# Altium integrated library Analog Devices Operational Amplifiers.IntLib: 2102 symbols (part 54 of 70)
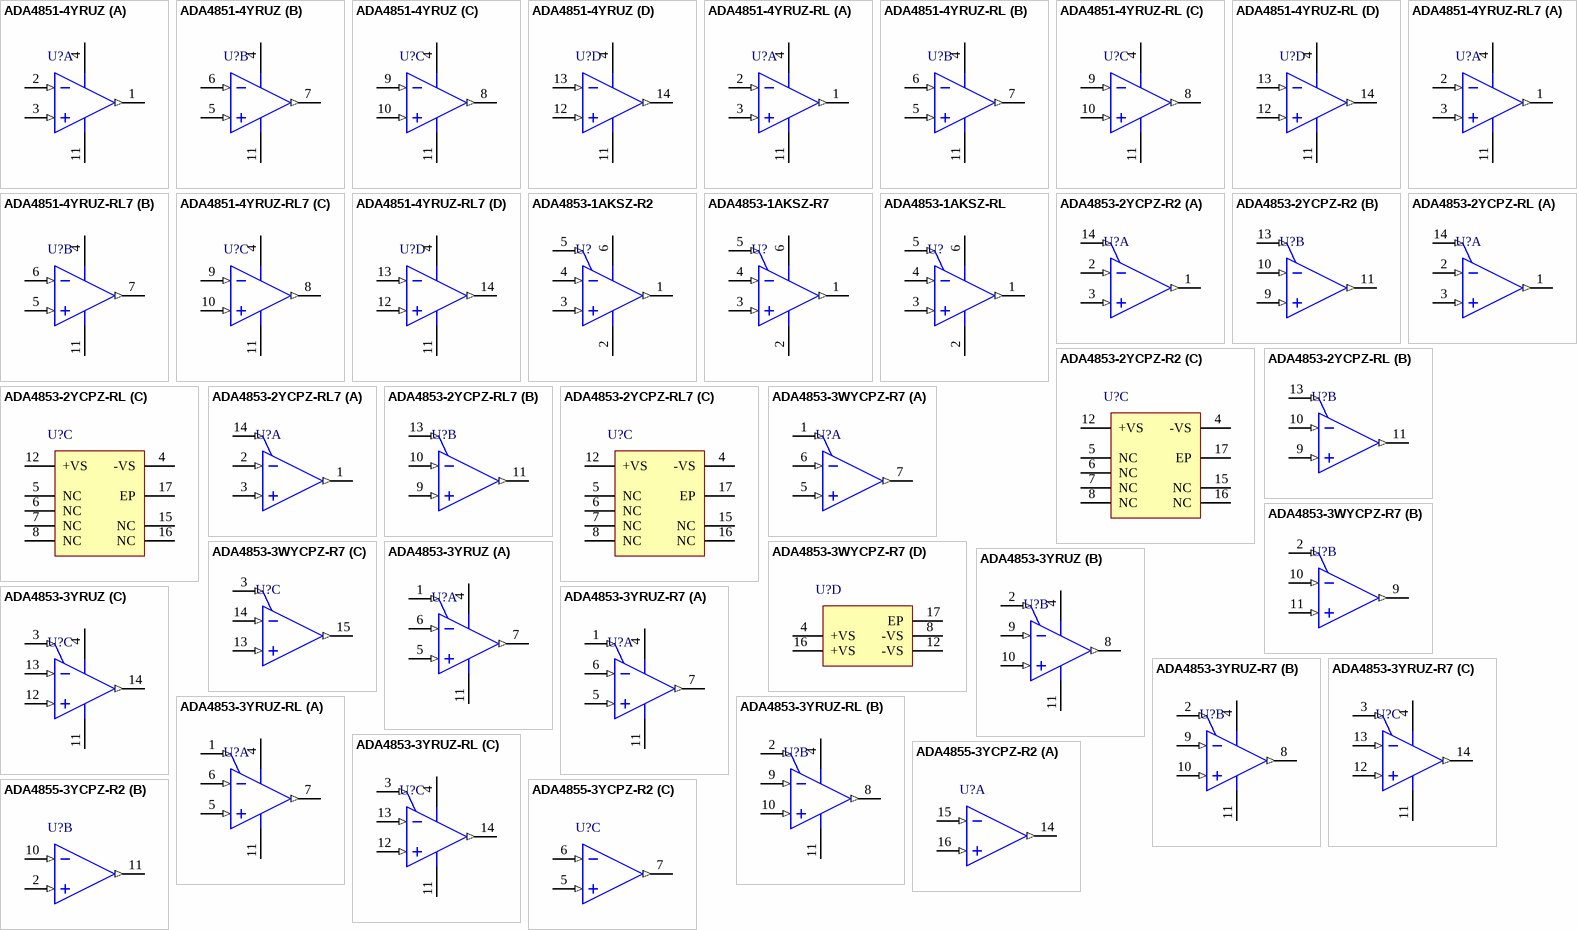
[diagram p167: symbols ADA4851-4YRUZ to ADA4855-3YCPZ-R2]

## ADA4853-2YCPZ-RL
designator U?
Double Channel Ultra Low Power-Down Current Operational Amplifier, 100 MHz BW, 120 V/us SR, Industrial, 16-pin QFN (CP-16-3), Reel; Generic Part Number: ADA4853-2; Manufacturer: Analog Devices; PartNumber: ADA4853-2YCPZ-RL; Amplifiers Per Package: 2; Input Bias Current: 1uA; Input Offset Voltage: 2mV; Iq/Amp: 1.6mA; Small Signal Bandwidth: 100MHz; V Span Max: 5V; V Span Min: 2.65V; DatasheetVersion: Rev. F; PackageReference: CP-16-3; PackageDescription: 16-Pin Lead Frame Chip Scale Package, Body 3 x 3 mm, Pitch 0.5 mm; Supplier 1: Digi-Key; Supplier Part Number 1: ADA4853-2YCPZ-RL-ND; Slew Rate: 120V/us; Mounting Technology: Surface Mount; Code_JEDEC: MO-220-VEED-2; ComponentLink1Description: Manufacturer URL; ComponentLink1URL: http://www.analog.com/en/index.html; ComponentLink2Description: Datasheet; ComponentLink2URL: http://www.analog.com/static/imported-files/data_sheets/ADA4853-1_4853-2_4853-3.pdf; ComponentLink3Description: Package Specification; ComponentLink3URL: http://www.analog.com/static/imported-files/packages/PKG_PDF/LFCSP(CP)/CP_16_3.pdf; ComponentLink4Description: Reference Circuit; ComponentLink4URL: http://www.analog.com/en/all-operational-amplifiers-op-amps/operational-amplifiers-op-amps/ada4853-2/products/product.html#product-recommendations
footprint ADI-CP-16-3_N (QFN, 16-Leads, Body 3x3mm, Pitch 0.5mm, Thermal Pad 1.5x1.5mm, IPC Medium Density)
footprint ADI-CP-16-3_L (QFN, 16-Leads, Body 3x3mm, Pitch 0.5mm, Thermal Pad 1.5x1.5mm, IPC High Density)
footprint ADI-CP-16-3_M (QFN, 16-Leads, Body 3x3mm, Pitch 0.5mm, Thermal Pad 1.5x1.5mm, IPC Low Density)
part A pins: 1 VOUT 1 (out), 2 -IN 1 (in), 3 +IN 1 (in), 14 DISABLE 1 (in)
part B pins: 9 +IN 2 (in), 10 -IN 2 (in), 11 VOUT 2 (out), 13 DISABLE 2 (in)
part C pins: 4 -VS (power), 5 NC, 6 NC, 7 NC, 8 NC, 12 +VS (power), 15 NC, 16 NC, 17 EP (power) "EXPOSED DIE PAD MUST BE CONNECTED TO GND."

## ADA4853-2YCPZ-RL7
designator U?
Double Channel Ultra Low Power-Down Current Operational Amplifier, 100 MHz BW, 120 V/us SR, Industrial, 16-pin QFN (CP-16-3), Reel; Generic Part Number: ADA4853-2; Manufacturer: Analog Devices; PartNumber: ADA4853-2YCPZ-RL7; Amplifiers Per Package: 2; Input Bias Current: 1uA; Input Offset Voltage: 2mV; Iq/Amp: 1.6mA; Small Signal Bandwidth: 100MHz; V Span Max: 5V; V Span Min: 2.65V; DatasheetVersion: Rev. F; PackageReference: CP-16-3; PackageDescription: 16-Pin Lead Frame Chip Scale Package, Body 3 x 3 mm, Pitch 0.5 mm; Supplier 1: Digi-Key; Supplier Part Number 1: ADA4853-2YCPZ-RL7TR-ND; Supplier 2: Digi-Key; Supplier Part Number 2: ADA4853-2YCPZ-RL7CT-ND; Supplier 3: Digi-Key; Supplier Part Number 3: ADA4853-2YCPZ-RL7DKR-ND; Slew Rate: 120V/us; Mounting Technology: Surface Mount; Code_JEDEC: MO-220-VEED-2; ComponentLink1Description: Manufacturer URL; ComponentLink1URL: http://www.analog.com/en/index.html; ComponentLink2Description: Datasheet; ComponentLink2URL: http://www.analog.com/static/imported-files/data_sheets/ADA4853-1_4853-2_4853-3.pdf; ComponentLink3Description: Package Specification; ComponentLink3URL: http://www.analog.com/static/imported-files/packages/PKG_PDF/LFCSP(CP)/CP_16_3.pdf; ComponentLink4Description: Reference Circuit; ComponentLink4URL: http://www.analog.com/en/all-operational-amplifiers-op-amps/operational-amplifiers-op-amps/ada4853-2/products/product.html#product-recommendations
footprint ADI-CP-16-3_N (QFN, 16-Leads, Body 3x3mm, Pitch 0.5mm, Thermal Pad 1.5x1.5mm, IPC Medium Density)
footprint ADI-CP-16-3_L (QFN, 16-Leads, Body 3x3mm, Pitch 0.5mm, Thermal Pad 1.5x1.5mm, IPC High Density)
footprint ADI-CP-16-3_M (QFN, 16-Leads, Body 3x3mm, Pitch 0.5mm, Thermal Pad 1.5x1.5mm, IPC Low Density)
part A pins: 1 VOUT 1 (out), 2 -IN 1 (in), 3 +IN 1 (in), 14 DISABLE 1 (in)
part B pins: 9 +IN 2 (in), 10 -IN 2 (in), 11 VOUT 2 (out), 13 DISABLE 2 (in)
part C pins: 4 -VS (power), 5 NC, 6 NC, 7 NC, 8 NC, 12 +VS (power), 15 NC, 16 NC, 17 EP (power) "EXPOSED DIE PAD MUST BE CONNECTED TO GND."

## ADA4853-3WYCPZ-R7
designator U?
3 Channel Ultra Low Power-Down Current Operational Amplifier, 100 MHz BW, 120 V/us SR, Industrial, 16-pin QFN (CP-16-3), Reel; Generic Part Number: ADA4853-3; Manufacturer: Analog Devices; PartNumber: ADA4853-3WYCPZ-R7; Amplifiers Per Package: 3; Automotive Qualified: Yes; Input Bias Current: 1uA; Input Offset Voltage: 1mV; Iq/Amp: 1.4mA; Small Signal Bandwidth: 100MHz; V Span Max: 5V; V Span Min: 2.65V; DatasheetVersion: Rev. F; PackageReference: CP-16-3; PackageDescription: 16-Pin Lead Frame Chip Scale Package, Body 3 x 3 mm, Pitch 0.5 mm; Slew Rate: 120V/us; Mounting Technology: Surface Mount; Code_JEDEC: MO-220-VEED-2; ComponentLink1Description: Manufacturer URL; ComponentLink1URL: http://www.analog.com/en/index.html; ComponentLink2Description: Datasheet; ComponentLink2URL: http://www.analog.com/static/imported-files/data_sheets/ADA4853-1_4853-2_4853-3.pdf; ComponentLink3Description: Package Specification; ComponentLink3URL: http://www.analog.com/static/imported-files/packages/PKG_PDF/LFCSP(CP)/CP_16_3.pdf; ComponentLink4Description: Reference Circuit; ComponentLink4URL: http://www.analog.com/en/all-operational-amplifiers-op-amps/operational-amplifiers-op-amps/ada4853-3/products/product.html#product-recommendations
footprint ADI-CP-16-3_N (QFN, 16-Leads, Body 3x3mm, Pitch 0.5mm, Thermal Pad 1.5x1.5mm, IPC Medium Density)
footprint ADI-CP-16-3_L (QFN, 16-Leads, Body 3x3mm, Pitch 0.5mm, Thermal Pad 1.5x1.5mm, IPC High Density)
footprint ADI-CP-16-3_M (QFN, 16-Leads, Body 3x3mm, Pitch 0.5mm, Thermal Pad 1.5x1.5mm, IPC Low Density)
part A pins: 1 DISABLE 1 (in), 5 +IN 1 (in), 6 -IN 1 (in), 7 VOUT 1 (out)
part B pins: 2 DISABLE 2 (in), 9 VOUT 2 (out), 10 -IN 2 (in), 11 +IN 2 (in)
part C pins: 3 DISABLE 3 (in), 13 +IN 3 (in), 14 -IN 3 (in), 15 VOUT 3 (out)
part D pins: 4 +VS (power), 8 -VS (power), 12 -VS (power), 16 +VS (power), 17 EP (power)

## ADA4853-3YRUZ
designator U?
3 Channel Ultra Low Power-Down Current Operational Amplifier, 100 MHz BW, 120 V/us SR, Industrial, 14-pin SOP (RU-14), Tube; Generic Part Number: ADA4853-3; Manufacturer: Analog Devices; PartNumber: ADA4853-3YRUZ; Amplifiers Per Package: 3; Automotive Qualified: Yes; Input Bias Current: 1uA; Input Offset Voltage: 1mV; Iq/Amp: 1.4mA; Small Signal Bandwidth: 100MHz; V Span Max: 5V; V Span Min: 2.65V; DatasheetVersion: Rev. F; PackageReference: RU-14; PackageDescription: 14-Pin Thin Shrink Small Outline Package, Body 5 x 4.4 mm, Pitch 0.65 mm; Supplier 1: Digi-Key; Supplier Part Number 1: ADA4853-3YRUZ-ND; Supplier 2: Farnell; Supplier Part Number 2: 1498692; Supplier 3: Newark; Supplier Part Number 3: 15P0326; Slew Rate: 120V/us; Mounting Technology: Surface Mount; Code_JEDEC: MO-153AB-1; ComponentLink1Description: Manufacturer URL; ComponentLink1URL: http://www.analog.com/en/index.html; ComponentLink2Description: Datasheet; ComponentLink2URL: http://www.analog.com/static/imported-files/data_sheets/ADA4853-1_4853-2_4853-3.pdf; ComponentLink3Description: Package Specification; ComponentLink3URL: http://www.analog.com/static/imported-files/packages/36057385283879153717235186773RU14.pdf; ComponentLink4Description: Reference Circuit; ComponentLink4URL: http://www.analog.com/en/all-operational-amplifiers-op-amps/operational-amplifiers-op-amps/ada4853-3/products/product.html#product-recommendations
footprint ADI-RU-14_N (SOP, 14-Leads, Body 5x4.4mm, Pitch 0.65mm, IPC Medium Density)
footprint ADI-RU-14_L (SOP, 14-Leads, Body 5x4.4mm, Pitch 0.65mm, IPC High Density)
footprint ADI-RU-14_M (SOP, 14-Leads, Body 5x4.4mm, Pitch 0.65mm, IPC Low Density)
pins on every part: 4 +VS (power), 11 -VS (power)
part A pins: 1 DISABLE 1 (in), 5 +IN 1 (in), 6 -IN 1 (in), 7 VOUT 1 (out)
part B pins: 2 DISABLE 2 (in), 8 VOUT 2 (out), 9 -IN 2 (in), 10 +IN 2 (in)
part C pins: 3 DISABLE 3 (in), 12 +IN 3 (in), 13 -IN 3 (in), 14 VOUT 3 (out)

## ADA4853-3YRUZ-R7
designator U?
3 Channel Ultra Low Power-Down Current Operational Amplifier, 100 MHz BW, 120 V/us SR, Industrial, 14-pin SOP (RU-14), Reel; Generic Part Number: ADA4853-3; Manufacturer: Analog Devices; PartNumber: ADA4853-3YRUZ-R7; Amplifiers Per Package: 3; Automotive Qualified: Yes; Input Bias Current: 1uA; Input Offset Voltage: 1mV; Iq/Amp: 1.4mA; Small Signal Bandwidth: 100MHz; V Span Max: 5V; V Span Min: 2.65V; DatasheetVersion: Rev. F; PackageReference: RU-14; PackageDescription: 14-Pin Thin Shrink Small Outline Package, Body 5 x 4.4 mm, Pitch 0.65 mm; Supplier 1: Digi-Key; Supplier Part Number 1: ADA4853-3YRUZ-R7-ND; Slew Rate: 120V/us; Mounting Technology: Surface Mount; Code_JEDEC: MO-153AB-1; ComponentLink1Description: Manufacturer URL; ComponentLink1URL: http://www.analog.com/en/index.html; ComponentLink2Description: Datasheet; ComponentLink2URL: http://www.analog.com/static/imported-files/data_sheets/ADA4853-1_4853-2_4853-3.pdf; ComponentLink3Description: Package Specification; ComponentLink3URL: http://www.analog.com/static/imported-files/packages/36057385283879153717235186773RU14.pdf; ComponentLink4Description: Reference Circuit; ComponentLink4URL: http://www.analog.com/en/all-operational-amplifiers-op-amps/operational-amplifiers-op-amps/ada4853-3/products/product.html#product-recommendations
footprint ADI-RU-14_N (SOP, 14-Leads, Body 5x4.4mm, Pitch 0.65mm, IPC Medium Density)
footprint ADI-RU-14_L (SOP, 14-Leads, Body 5x4.4mm, Pitch 0.65mm, IPC High Density)
footprint ADI-RU-14_M (SOP, 14-Leads, Body 5x4.4mm, Pitch 0.65mm, IPC Low Density)
pins on every part: 4 +VS (power), 11 -VS (power)
part A pins: 1 DISABLE 1 (in), 5 +IN 1 (in), 6 -IN 1 (in), 7 VOUT 1 (out)
part B pins: 2 DISABLE 2 (in), 8 VOUT 2 (out), 9 -IN 2 (in), 10 +IN 2 (in)
part C pins: 3 DISABLE 3 (in), 12 +IN 3 (in), 13 -IN 3 (in), 14 VOUT 3 (out)

## ADA4853-3YRUZ-RL
designator U?
3 Channel Ultra Low Power-Down Current Operational Amplifier, 100 MHz BW, 120 V/us SR, Industrial, 14-pin SOP (RU-14), Reel; Generic Part Number: ADA4853-3; Manufacturer: Analog Devices; PartNumber: ADA4853-3YRUZ-RL; Amplifiers Per Package: 3; Automotive Qualified: Yes; Input Bias Current: 1uA; Input Offset Voltage: 1mV; Iq/Amp: 1.4mA; Small Signal Bandwidth: 100MHz; V Span Max: 5V; V Span Min: 2.65V; DatasheetVersion: Rev. F; PackageReference: RU-14; PackageDescription: 14-Pin Thin Shrink Small Outline Package, Body 5 x 4.4 mm, Pitch 0.65 mm; Supplier 1: Digi-Key; Supplier Part Number 1: ADA4853-3YRUZ-RL-ND; Slew Rate: 120V/us; Mounting Technology: Surface Mount; Code_JEDEC: MO-153AB-1; ComponentLink1Description: Manufacturer URL; ComponentLink1URL: http://www.analog.com/en/index.html; ComponentLink2Description: Datasheet; ComponentLink2URL: http://www.analog.com/static/imported-files/data_sheets/ADA4853-1_4853-2_4853-3.pdf; ComponentLink3Description: Package Specification; ComponentLink3URL: http://www.analog.com/static/imported-files/packages/36057385283879153717235186773RU14.pdf; ComponentLink4Description: Reference Circuit; ComponentLink4URL: http://www.analog.com/en/all-operational-amplifiers-op-amps/operational-amplifiers-op-amps/ada4853-3/products/product.html#product-recommendations
footprint ADI-RU-14_N (SOP, 14-Leads, Body 5x4.4mm, Pitch 0.65mm, IPC Medium Density)
footprint ADI-RU-14_L (SOP, 14-Leads, Body 5x4.4mm, Pitch 0.65mm, IPC High Density)
footprint ADI-RU-14_M (SOP, 14-Leads, Body 5x4.4mm, Pitch 0.65mm, IPC Low Density)
pins on every part: 4 +VS (power), 11 -VS (power)
part A pins: 1 DISABLE 1 (in), 5 +IN 1 (in), 6 -IN 1 (in), 7 VOUT 1 (out)
part B pins: 2 DISABLE 2 (in), 8 VOUT 2 (out), 9 -IN 2 (in), 10 +IN 2 (in)
part C pins: 3 DISABLE 3 (in), 12 +IN 3 (in), 13 -IN 3 (in), 14 VOUT 3 (out)

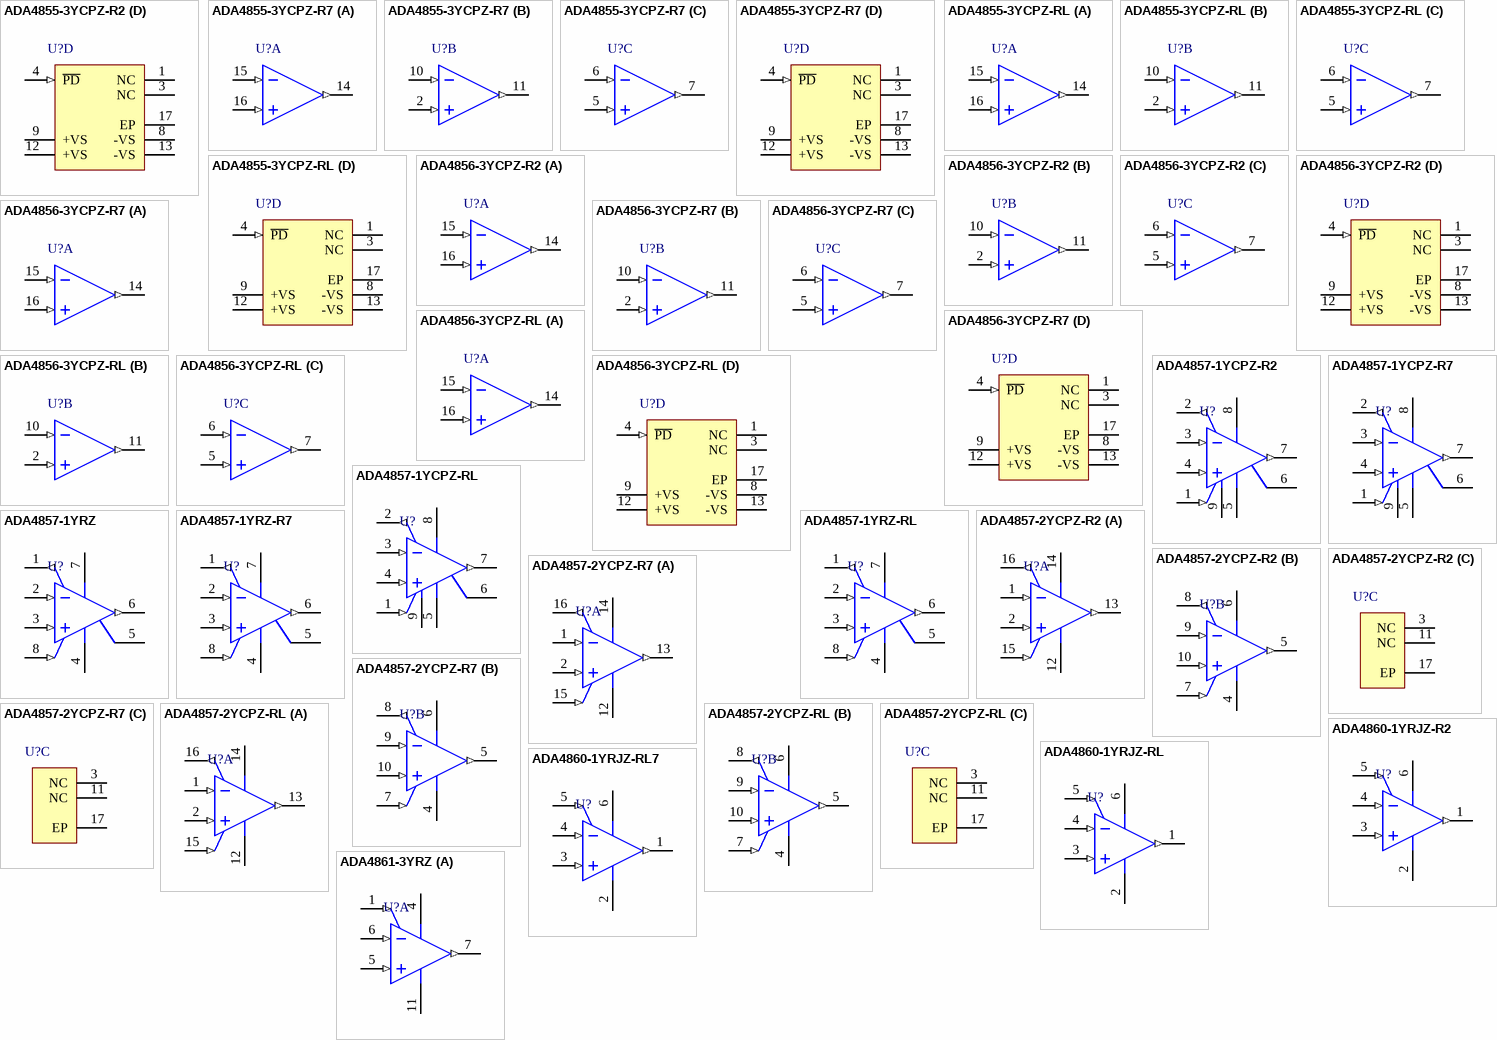
[diagram p85: symbols ADA4855-3YCPZ-R2 to ADA4861-3YRZ]

## ADA4855-3YCPZ-R2
designator U?
3 Channel Rail-to-Rail Operational Amplifier, 400 MHz BW, 800 V/us SR, Industrial, 16-pin QFN (CP-16-4), Reel; Generic Part Number: ADA4855-3; Manufacturer: Analog Devices; PartNumber: ADA4855-3YCPZ-R2; Amplifiers Per Package: 3; Input Bias Current: 4.5uA; Input Offset Voltage: 1mV; Small Signal Bandwidth: 400MHz; V Span Max: 5.5V; V Span Min: 3V; DatasheetVersion: Rev. 0; PackageVersion: 010606-0; PackageReference: CP-16-4; PackageDescription: 16-Pin Lead Frame Chip Scale Package, Body 4 x 4 mm, Pitch 0.65 mm; Supplier 1: Farnell; Supplier Part Number 1: 1701272; Supplier 2: Newark; Supplier Part Number 2: 34P2974; Slew Rate: 800V/us; Mounting Technology: Surface Mount; Code_JEDEC: MO-220-VGGC; ComponentLink1Description: Manufacturer URL; ComponentLink1URL: http://www.analog.com/en/index.html; ComponentLink2Description: Datasheet; ComponentLink2URL: http://www.analog.com/static/imported-files/data_sheets/ADA4855-3.pdf; ComponentLink3Description: Package Specification; ComponentLink3URL: http://www.analog.com/static/imported-files/packages/46009454504174339653421710019CP_16_4.pdf
footprint CP-16-4_N (QFN, 16-Leads, Body 4x4mm, Pitch 0.65mm, Thermal Pad 2.1x2.1mm, IPC Medium Density)
footprint CP-16-4_L (QFN, 16-Leads, Body 4x4mm, Pitch 0.65mm, Thermal Pad 2.1x2.1mm, IPC High Density)
footprint CP-16-4_M (QFN, 16-Leads, Body 4x4mm, Pitch 0.65mm, Thermal Pad 2.1x2.1mm, IPC Low Density)
part A pins: 14 OUT 1 (out) "Output 1.", 15 -IN 1 (in) "Inverting Input 1.", 16 +IN 1 (in) "Noninverting Input 1."
part B pins: 2 +IN 2 (in) "Noninverting Input 2.", 10 -IN 2 (in) "Inverting Input 2.", 11 OUT 2 (out) "Output 2."
part C pins: 5 +IN 3 (in) "Noninverting Input 3.", 6 -IN 3 (in) "Inverting Input 3.", 7 OUT 3 (out) "Output 3."
part D pins: 1 NC "No Connect.", 3 NC "No Connect.", 4 ~{PD} (in) "Power Down.", 8 -VS (power) "Negative Supply.", 9 +VS (power) "Positive Supply.", 12 +VS (power) "Positive Supply.", 13 -VS (power) "Negative Supply.", 17 EP (power) "The exposed pad must be connected to -VS."

## ADA4855-3YCPZ-R7
designator U?
3 Channel Rail-to-Rail Operational Amplifier, 400 MHz BW, 800 V/us SR, Industrial, 16-pin QFN (CP-16-4), Reel; Generic Part Number: ADA4855-3; Manufacturer: Analog Devices; PartNumber: ADA4855-3YCPZ-R7; Amplifiers Per Package: 3; Input Bias Current: 4.5uA; Input Offset Voltage: 1mV; Small Signal Bandwidth: 400MHz; V Span Max: 5.5V; V Span Min: 3V; DatasheetVersion: Rev. 0; PackageVersion: 010606-0; PackageReference: CP-16-4; PackageDescription: 16-Pin Lead Frame Chip Scale Package, Body 4 x 4 mm, Pitch 0.65 mm; Supplier 1: Digi-Key; Supplier Part Number 1: ADA4855-3YCPZ-R7TR-ND; Supplier 2: Digi-Key; Supplier Part Number 2: ADA4855-3YCPZ-R7CT-ND; Supplier 3: Digi-Key; Supplier Part Number 3: ADA4855-3YCPZ-R7DKR-ND; Slew Rate: 800V/us; Mounting Technology: Surface Mount; Code_JEDEC: MO-220-VGGC; ComponentLink1Description: Manufacturer URL; ComponentLink1URL: http://www.analog.com/en/index.html; ComponentLink2Description: Datasheet; ComponentLink2URL: http://www.analog.com/static/imported-files/data_sheets/ADA4855-3.pdf; ComponentLink3Description: Package Specification; ComponentLink3URL: http://www.analog.com/static/imported-files/packages/46009454504174339653421710019CP_16_4.pdf
footprint CP-16-4_N (QFN, 16-Leads, Body 4x4mm, Pitch 0.65mm, Thermal Pad 2.1x2.1mm, IPC Medium Density)
footprint CP-16-4_L (QFN, 16-Leads, Body 4x4mm, Pitch 0.65mm, Thermal Pad 2.1x2.1mm, IPC High Density)
footprint CP-16-4_M (QFN, 16-Leads, Body 4x4mm, Pitch 0.65mm, Thermal Pad 2.1x2.1mm, IPC Low Density)
part A pins: 14 OUT 1 (out) "Output 1.", 15 -IN 1 (in) "Inverting Input 1.", 16 +IN 1 (in) "Noninverting Input 1."
part B pins: 2 +IN 2 (in) "Noninverting Input 2.", 10 -IN 2 (in) "Inverting Input 2.", 11 OUT 2 (out) "Output 2."
part C pins: 5 +IN 3 (in) "Noninverting Input 3.", 6 -IN 3 (in) "Inverting Input 3.", 7 OUT 3 (out) "Output 3."
part D pins: 1 NC "No Connect.", 3 NC "No Connect.", 4 ~{PD} (in) "Power Down.", 8 -VS (power) "Negative Supply.", 9 +VS (power) "Positive Supply.", 12 +VS (power) "Positive Supply.", 13 -VS (power) "Negative Supply.", 17 EP (power) "The exposed pad must be connected to -VS."

## ADA4855-3YCPZ-RL
designator U?
3 Channel Rail-to-Rail Operational Amplifier, 400 MHz BW, 800 V/us SR, Industrial, 16-pin QFN (CP-16-4), Reel; Generic Part Number: ADA4855-3; Manufacturer: Analog Devices; PartNumber: ADA4855-3YCPZ-RL; Amplifiers Per Package: 3; Input Bias Current: 4.5uA; Input Offset Voltage: 1mV; Small Signal Bandwidth: 400MHz; V Span Max: 5.5V; V Span Min: 3V; DatasheetVersion: Rev. 0; PackageVersion: 010606-0; PackageReference: CP-16-4; PackageDescription: 16-Pin Lead Frame Chip Scale Package, Body 4 x 4 mm, Pitch 0.65 mm; Supplier 1: Digi-Key; Supplier Part Number 1: ADA4855-3YCPZ-RL-ND; Slew Rate: 800V/us; Mounting Technology: Surface Mount; Code_JEDEC: MO-220-VGGC; ComponentLink1Description: Manufacturer URL; ComponentLink1URL: http://www.analog.com/en/index.html; ComponentLink2Description: Datasheet; ComponentLink2URL: http://www.analog.com/static/imported-files/data_sheets/ADA4855-3.pdf; ComponentLink3Description: Package Specification; ComponentLink3URL: http://www.analog.com/static/imported-files/packages/46009454504174339653421710019CP_16_4.pdf
footprint CP-16-4_N (QFN, 16-Leads, Body 4x4mm, Pitch 0.65mm, Thermal Pad 2.1x2.1mm, IPC Medium Density)
footprint CP-16-4_L (QFN, 16-Leads, Body 4x4mm, Pitch 0.65mm, Thermal Pad 2.1x2.1mm, IPC High Density)
footprint CP-16-4_M (QFN, 16-Leads, Body 4x4mm, Pitch 0.65mm, Thermal Pad 2.1x2.1mm, IPC Low Density)
part A pins: 14 OUT 1 (out) "Output 1.", 15 -IN 1 (in) "Inverting Input 1.", 16 +IN 1 (in) "Noninverting Input 1."
part B pins: 2 +IN 2 (in) "Noninverting Input 2.", 10 -IN 2 (in) "Inverting Input 2.", 11 OUT 2 (out) "Output 2."
part C pins: 5 +IN 3 (in) "Noninverting Input 3.", 6 -IN 3 (in) "Inverting Input 3.", 7 OUT 3 (out) "Output 3."
part D pins: 1 NC "No Connect.", 3 NC "No Connect.", 4 ~{PD} (in) "Power Down.", 8 -VS (power) "Negative Supply.", 9 +VS (power) "Positive Supply.", 12 +VS (power) "Positive Supply.", 13 -VS (power) "Negative Supply.", 17 EP (power) "The exposed pad must be connected to -VS."

## ADA4856-3YCPZ-R2
designator U?
3 Channel Rail-to-Rail Operational Amplifier, 225 MHz BW, 800 V/us SR, Industrial, 16-pin QFN (CP-16-4), Reel; Generic Part Number: ADA4856-3; Manufacturer: Analog Devices; PartNumber: ADA4856-3YCPZ-R2; Amplifiers Per Package: 3; Input Bias Current: 3.8uA; Input Offset Voltage: 1.3mV; Iq/Amp: 7.8mA; Small Signal Bandwidth: 225MHz; V Span Max: 5.5V; V Span Min: 3V; DatasheetVersion: Rev. A; PackageVersion: 010606-0; PackageReference: CP-16-4; PackageDescription: 16-Pin Lead Frame Chip Scale Package, Body 4 x 4 mm, Pitch 0.65 mm; Supplier 1: Digi-Key; Supplier Part Number 1: ADA4856-3YCPZ-R2CT-ND; Supplier 2: Digi-Key; Supplier Part Number 2: ADA4856-3YCPZ-R2DKR-ND; Supplier 3: Newark; Supplier Part Number 3: 34P2977; Slew Rate: 800V/us; Mounting Technology: Surface Mount; Code_JEDEC: MO-220-VGGC; ComponentLink1Description: Manufacturer URL; ComponentLink1URL: http://www.analog.com/en/index.html; ComponentLink2Description: Datasheet; ComponentLink2URL: http://www.analog.com/static/imported-files/data_sheets/ADA4856-3.pdf; ComponentLink3Description: Package Specification; ComponentLink3URL: http://www.analog.com/static/imported-files/packages/46009454504174339653421710019CP_16_4.pdf
footprint CP-16-4_N (QFN, 16-Leads, Body 4x4mm, Pitch 0.65mm, Thermal Pad 2.1x2.1mm, IPC Medium Density)
footprint CP-16-4_L (QFN, 16-Leads, Body 4x4mm, Pitch 0.65mm, Thermal Pad 2.1x2.1mm, IPC High Density)
footprint CP-16-4_M (QFN, 16-Leads, Body 4x4mm, Pitch 0.65mm, Thermal Pad 2.1x2.1mm, IPC Low Density)
part A pins: 14 OUT 1 (out) "Output 1.", 15 -IN 1 (in) "Inverting Input 1.", 16 +IN 1 (in) "Noninverting Input 1."
part B pins: 2 +IN 2 (in) "Noninverting Input 2.", 10 -IN 2 (in) "Inverting Input 2.", 11 OUT 2 (out) "Output 2."
part C pins: 5 +IN 3 (in) "Noninverting Input 3.", 6 -IN 3 (in) "Inverting Input 3.", 7 OUT 3 (out) "Output 3."
part D pins: 1 NC "No Connect.", 3 NC "No Connect.", 4 ~{PD} (in) "Power Down.", 8 -VS (power) "Negative Supply.", 9 +VS (power) "Positive Supply.", 12 +VS (power) "Positive Supply.", 13 -VS (power) "Negative Supply.", 17 EP (power) "The exposed pad must be connected to -VS."

## ADA4856-3YCPZ-R7
designator U?
3 Channel Rail-to-Rail Operational Amplifier, 225 MHz BW, 800 V/us SR, Industrial, 16-pin QFN (CP-16-4), Reel; Generic Part Number: ADA4856-3; Manufacturer: Analog Devices; PartNumber: ADA4856-3YCPZ-R7; Amplifiers Per Package: 3; Input Bias Current: 3.8uA; Input Offset Voltage: 1.3mV; Iq/Amp: 7.8mA; Small Signal Bandwidth: 225MHz; V Span Max: 5.5V; V Span Min: 3V; DatasheetVersion: Rev. A; PackageVersion: 010606-0; PackageReference: CP-16-4; PackageDescription: 16-Pin Lead Frame Chip Scale Package, Body 4 x 4 mm, Pitch 0.65 mm; Supplier 1: Digi-Key; Supplier Part Number 1: ADA4856-3YCPZ-R7TR-ND; Supplier 2: Digi-Key; Supplier Part Number 2: ADA4856-3YCPZ-R7CT-ND; Supplier 3: Digi-Key; Supplier Part Number 3: ADA4856-3YCPZ-R7DKR-ND; Slew Rate: 800V/us; Mounting Technology: Surface Mount; Code_JEDEC: MO-220-VGGC; ComponentLink1Description: Manufacturer URL; ComponentLink1URL: http://www.analog.com/en/index.html; ComponentLink2Description: Datasheet; ComponentLink2URL: http://www.analog.com/static/imported-files/data_sheets/ADA4856-3.pdf; ComponentLink3Description: Package Specification; ComponentLink3URL: http://www.analog.com/static/imported-files/packages/46009454504174339653421710019CP_16_4.pdf
footprint CP-16-4_N (QFN, 16-Leads, Body 4x4mm, Pitch 0.65mm, Thermal Pad 2.1x2.1mm, IPC Medium Density)
footprint CP-16-4_L (QFN, 16-Leads, Body 4x4mm, Pitch 0.65mm, Thermal Pad 2.1x2.1mm, IPC High Density)
footprint CP-16-4_M (QFN, 16-Leads, Body 4x4mm, Pitch 0.65mm, Thermal Pad 2.1x2.1mm, IPC Low Density)
part A pins: 14 OUT 1 (out) "Output 1.", 15 -IN 1 (in) "Inverting Input 1.", 16 +IN 1 (in) "Noninverting Input 1."
part B pins: 2 +IN 2 (in) "Noninverting Input 2.", 10 -IN 2 (in) "Inverting Input 2.", 11 OUT 2 (out) "Output 2."
part C pins: 5 +IN 3 (in) "Noninverting Input 3.", 6 -IN 3 (in) "Inverting Input 3.", 7 OUT 3 (out) "Output 3."
part D pins: 1 NC "No Connect.", 3 NC "No Connect.", 4 ~{PD} (in) "Power Down.", 8 -VS (power) "Negative Supply.", 9 +VS (power) "Positive Supply.", 12 +VS (power) "Positive Supply.", 13 -VS (power) "Negative Supply.", 17 EP (power) "The exposed pad must be connected to -VS."

## ADA4856-3YCPZ-RL
designator U?
3 Channel Rail-to-Rail Operational Amplifier, 225 MHz BW, 800 V/us SR, Industrial, 16-pin QFN (CP-16-4), Reel; Generic Part Number: ADA4856-3; Manufacturer: Analog Devices; PartNumber: ADA4856-3YCPZ-RL; Amplifiers Per Package: 3; Input Bias Current: 3.8uA; Input Offset Voltage: 1.3mV; Iq/Amp: 7.8mA; Small Signal Bandwidth: 225MHz; V Span Max: 5.5V; V Span Min: 3V; DatasheetVersion: Rev. A; PackageVersion: 010606-0; PackageReference: CP-16-4; PackageDescription: 16-Pin Lead Frame Chip Scale Package, Body 4 x 4 mm, Pitch 0.65 mm; Supplier 1: Digi-Key; Supplier Part Number 1: ADA4856-3YCPZ-RL-ND; Supplier 2: Newark; Supplier Part Number 2: 34P2976; Slew Rate: 800V/us; Mounting Technology: Surface Mount; Code_JEDEC: MO-220-VGGC; ComponentLink1Description: Manufacturer URL; ComponentLink1URL: http://www.analog.com/en/index.html; ComponentLink2Description: Datasheet; ComponentLink2URL: http://www.analog.com/static/imported-files/data_sheets/ADA4856-3.pdf; ComponentLink3Description: Package Specification; ComponentLink3URL: http://www.analog.com/static/imported-files/packages/46009454504174339653421710019CP_16_4.pdf
footprint CP-16-4_N (QFN, 16-Leads, Body 4x4mm, Pitch 0.65mm, Thermal Pad 2.1x2.1mm, IPC Medium Density)
footprint CP-16-4_L (QFN, 16-Leads, Body 4x4mm, Pitch 0.65mm, Thermal Pad 2.1x2.1mm, IPC High Density)
footprint CP-16-4_M (QFN, 16-Leads, Body 4x4mm, Pitch 0.65mm, Thermal Pad 2.1x2.1mm, IPC Low Density)
part A pins: 14 OUT 1 (out) "Output 1.", 15 -IN 1 (in) "Inverting Input 1.", 16 +IN 1 (in) "Noninverting Input 1."
part B pins: 2 +IN 2 (in) "Noninverting Input 2.", 10 -IN 2 (in) "Inverting Input 2.", 11 OUT 2 (out) "Output 2."
part C pins: 5 +IN 3 (in) "Noninverting Input 3.", 6 -IN 3 (in) "Inverting Input 3.", 7 OUT 3 (out) "Output 3."
part D pins: 1 NC "No Connect.", 3 NC "No Connect.", 4 ~{PD} (in) "Power Down.", 8 -VS (power) "Negative Supply.", 9 +VS (power) "Positive Supply.", 12 +VS (power) "Positive Supply.", 13 -VS (power) "Negative Supply.", 17 EP (power) "The exposed pad must be connected to -VS."

## ADA4857-1YCPZ-R2
designator U?
Single Channel Low Power Operational Amplifier, 850 MHz BW, 2.8 KV/us SR, Industrial, 8-pin QFN (CP-8-2), Reel; Generic Part Number: ADA4857-1; Manufacturer: Analog Devices; PartNumber: ADA4857-1YCPZ-R2; Amplifiers Per Package: 1; Input Bias Current: 2uA; Input Offset Voltage: 2mV; Iq/Amp: 5.5mA; Small Signal Bandwidth: 850MHz; V Span Max: 10.5V; V Span Min: 4.5V; DatasheetVersion: Rev. B; PackageVersion: 061507-B; PackageReference: CP-8-2; PackageDescription: 8-Pin Lead Frame Chip Scale Package, Body 3 x 3 mm, Pitch 0.5 mm; Slew Rate: 2.8KV/us; Mounting Technology: Surface Mount; ComponentLink1Description: Manufacturer URL; ComponentLink1URL: http://www.analog.com/en/index.html; ComponentLink2Description: Datasheet; ComponentLink2URL: http://www.analog.com/static/imported-files/data_sheets/ADA4857-1_4857-2.pdf; ComponentLink3Description: Package Specification; ComponentLink3URL: http://www.analog.com/static/imported-files/packages/56953322593982CP_8_2.pdf
footprint ADI-CP-8-2_N (QFN, 8-Leads, Body 3x3mm, Pitch 0.5mm, Thermal Pad 1.45X1.74mm, IPC Medium Density)
footprint ADI-CP-8-2_L (QFN, 8-Leads, Body 3x3mm, Pitch 0.5mm, Thermal Pad 1.45X1.74mm, IPC High Density)
footprint ADI-CP-8-2_M (QFN, 8-Leads, Body 3x3mm, Pitch 0.5mm, Thermal Pad 1.45X1.74mm, IPC Low Density)
pins: 1 PD (in) "Power Down.", 2 FB (out) "Feedback.", 3 -IN (in) "Inverting Input.", 4 +IN (in) "Noninverting Input.", 5 -VS (power) "Negative Supply.", 6 NC "No Connect.", 7 OUT (out) "Output.", 8 +VS (power) "Positive Supply.", 9 EP (power) "Exposed Pad. The exposed pad may be connected to GND or VS."

## ADA4857-1YCPZ-R7
designator U?
Single Channel Low Power Operational Amplifier, 850 MHz BW, 2.8 KV/us SR, Industrial, 8-pin QFN (CP-8-2), Reel; Generic Part Number: ADA4857-1; Manufacturer: Analog Devices; PartNumber: ADA4857-1YCPZ-R7; Amplifiers Per Package: 1; Input Bias Current: 2uA; Input Offset Voltage: 2mV; Iq/Amp: 5.5mA; Small Signal Bandwidth: 850MHz; V Span Max: 10.5V; V Span Min: 4.5V; DatasheetVersion: Rev. B; PackageVersion: 061507-B; PackageReference: CP-8-2; PackageDescription: 8-Pin Lead Frame Chip Scale Package, Body 3 x 3 mm, Pitch 0.5 mm; Supplier 1: Digi-Key; Supplier Part Number 1: ADA4857-1YCPZ-R7TR-ND; Supplier 2: Digi-Key; Supplier Part Number 2: ADA4857-1YCPZ-R7CT-ND; Supplier 3: Digi-Key; Supplier Part Number 3: ADA4857-1YCPZ-R7DKR-ND; Supplier 4: Farnell; Supplier Part Number 4: 2291567; Supplier 5: Newark; Supplier Part Number 5: 63W5357; Supplier 6: Newark; Supplier Part Number 6: 11N8693; Supplier 7: Newark; Supplier Part Number 7: 66W5878; Slew Rate: 2.8KV/us; Mounting Technology: Surface Mount; ComponentLink1Description: Manufacturer URL; ComponentLink1URL: http://www.analog.com/en/index.html; ComponentLink2Description: Datasheet; ComponentLink2URL: http://www.analog.com/static/imported-files/data_sheets/ADA4857-1_4857-2.pdf; ComponentLink3Description: Package Specification; ComponentLink3URL: http://www.analog.com/static/imported-files/packages/56953322593982CP_8_2.pdf
footprint ADI-CP-8-2_N (QFN, 8-Leads, Body 3x3mm, Pitch 0.5mm, Thermal Pad 1.45X1.74mm, IPC Medium Density)
footprint ADI-CP-8-2_L (QFN, 8-Leads, Body 3x3mm, Pitch 0.5mm, Thermal Pad 1.45X1.74mm, IPC High Density)
footprint ADI-CP-8-2_M (QFN, 8-Leads, Body 3x3mm, Pitch 0.5mm, Thermal Pad 1.45X1.74mm, IPC Low Density)
pins: 1 PD (in) "Power Down.", 2 FB (out) "Feedback.", 3 -IN (in) "Inverting Input.", 4 +IN (in) "Noninverting Input.", 5 -VS (power) "Negative Supply.", 6 NC "No Connect.", 7 OUT (out) "Output.", 8 +VS (power) "Positive Supply.", 9 EP (power) "Exposed Pad. The exposed pad may be connected to GND or VS."

## ADA4857-1YCPZ-RL
designator U?
Single Channel Low Power Operational Amplifier, 850 MHz BW, 2.8 KV/us SR, Industrial, 8-pin QFN (CP-8-2), Reel; Generic Part Number: ADA4857-1; Manufacturer: Analog Devices; PartNumber: ADA4857-1YCPZ-RL; Amplifiers Per Package: 1; Input Bias Current: 2uA; Input Offset Voltage: 2mV; Iq/Amp: 5.5mA; Small Signal Bandwidth: 850MHz; V Span Max: 10.5V; V Span Min: 4.5V; DatasheetVersion: Rev. B; PackageVersion: 061507-B; PackageReference: CP-8-2; PackageDescription: 8-Pin Lead Frame Chip Scale Package, Body 3 x 3 mm, Pitch 0.5 mm; Supplier 1: Digi-Key; Supplier Part Number 1: ADA4857-1YCPZ-RL-ND; Slew Rate: 2.8KV/us; Mounting Technology: Surface Mount; ComponentLink1Description: Manufacturer URL; ComponentLink1URL: http://www.analog.com/en/index.html; ComponentLink2Description: Datasheet; ComponentLink2URL: http://www.analog.com/static/imported-files/data_sheets/ADA4857-1_4857-2.pdf; ComponentLink3Description: Package Specification; ComponentLink3URL: http://www.analog.com/static/imported-files/packages/56953322593982CP_8_2.pdf
footprint ADI-CP-8-2_N (QFN, 8-Leads, Body 3x3mm, Pitch 0.5mm, Thermal Pad 1.45X1.74mm, IPC Medium Density)
footprint ADI-CP-8-2_L (QFN, 8-Leads, Body 3x3mm, Pitch 0.5mm, Thermal Pad 1.45X1.74mm, IPC High Density)
footprint ADI-CP-8-2_M (QFN, 8-Leads, Body 3x3mm, Pitch 0.5mm, Thermal Pad 1.45X1.74mm, IPC Low Density)
pins: 1 PD (in) "Power Down.", 2 FB (out) "Feedback.", 3 -IN (in) "Inverting Input.", 4 +IN (in) "Noninverting Input.", 5 -VS (power) "Negative Supply.", 6 NC "No Connect.", 7 OUT (out) "Output.", 8 +VS (power) "Positive Supply.", 9 EP (power) "Exposed Pad. The exposed pad may be connected to GND or VS."

## ADA4857-1YRZ
designator U?
Single Channel Low Power Operational Amplifier, 850 MHz BW, 2.8 KV/us SR, 8-pin SOIC (R-8), Tube; Generic Part Number: ADA4857-1; Manufacturer: Analog Devices; PartNumber: ADA4857-1YRZ; Amplifiers Per Package: 1; Input Bias Current: 2uA; Input Offset Voltage: 2mV; Iq/Amp: 5.5mA; Small Signal Bandwidth: 850MHz; V Span Max: 10.5V; V Span Min: 4.5V; DatasheetVersion: Rev. B; PackageVersion: 060506-A; PackageReference: R-8; PackageDescription: 8-Pin Standard Small Outline Package, Body 3.9 x 4.9 mm, Pitch 1.27 mm; Supplier 1: Digi-Key; Supplier Part Number 1: ADA4857-1YRZ-ND; Supplier 2: Newark; Supplier Part Number 2: 11N8694; Slew Rate: 2.8KV/us; Mounting Technology: Surface Mount; Code_JEDEC: MS-012-AA; ComponentLink1Description: Manufacturer URL; ComponentLink1URL: http://www.analog.com/en/index.html; ComponentLink2Description: Datasheet; ComponentLink2URL: http://www.analog.com/static/imported-files/data_sheets/ADA4857-1_4857-2.pdf; ComponentLink3Description: Package Specification; ComponentLink3URL: http://www.analog.com/static/imported-files/packages/PKG_PDF/SOIC_Narrow%20(R)/R_8.pdf
footprint ADI-R-8_N (SOIC, 8-Leads, Body 4.9x3.9mm, Pitch 1.27mm, IPC Medium Density)
footprint ADI-R-8_L (SOIC, 8-Leads, Body 4.9x3.9mm, Pitch 1.27mm, IPC High Density)
footprint ADI-R-8_M (SOIC, 8-Leads, Body 4.9x3.9mm, Pitch 1.27mm, IPC Low Density)
pins: 1 FB (out), 2 -IN (in), 3 +IN (in), 4 -VS (power), 5 NC, 6 OUT (out), 7 +VS (power), 8 PD (in)

## ADA4857-1YRZ-R7
designator U?
Single Channel Low Power Operational Amplifier, 850 MHz BW, 2.8 KV/us SR, Industrial, 8-pin SOIC (R-8), Reel; Generic Part Number: ADA4857-1; Manufacturer: Analog Devices; PartNumber: ADA4857-1YRZ-R7; Amplifiers Per Package: 1; Input Bias Current: 2uA; Input Offset Voltage: 2mV; Iq/Amp: 5.5mA; Small Signal Bandwidth: 850MHz; V Span Max: 10.5V; V Span Min: 4.5V; DatasheetVersion: Rev. B; PackageVersion: 060506-A; PackageReference: R-8; PackageDescription: 8-Pin Standard Small Outline Package, Body 3.9 x 4.9 mm, Pitch 1.27 mm; Supplier 1: Digi-Key; Supplier Part Number 1: ADA4857-1YRZ-R7-ND; Packing: Reel; Slew Rate: 2.8KV/us; Mounting Technology: Surface Mount; Code_JEDEC: MS-012-AA; ComponentLink1Description: Manufacturer URL; ComponentLink1URL: http://www.analog.com/en/index.html; ComponentLink2Description: Datasheet; ComponentLink2URL: http://www.analog.com/static/imported-files/data_sheets/ADA4857-1_4857-2.pdf; ComponentLink3Description: Package Specification; ComponentLink3URL: http://www.analog.com/static/imported-files/packages/PKG_PDF/SOIC_Narrow%20(R)/R_8.pdf
footprint ADI-R-8_N (SOIC, 8-Leads, Body 4.9x3.9mm, Pitch 1.27mm, IPC Medium Density)
footprint ADI-R-8_L (SOIC, 8-Leads, Body 4.9x3.9mm, Pitch 1.27mm, IPC High Density)
footprint ADI-R-8_M (SOIC, 8-Leads, Body 4.9x3.9mm, Pitch 1.27mm, IPC Low Density)
pins: 1 FB (out), 2 -IN (in), 3 +IN (in), 4 -VS (power), 5 NC, 6 OUT (out), 7 +VS (power), 8 PD (in)

## ADA4857-1YRZ-RL
designator U?
Single Channel Low Power Operational Amplifier, 850 MHz BW, 2.8 KV/us SR, Industrial, 8-pin SOIC (R-8), Reel; Generic Part Number: ADA4857-1; Manufacturer: Analog Devices; PartNumber: ADA4857-1YRZ-RL; Amplifiers Per Package: 1; Input Bias Current: 2uA; Input Offset Voltage: 2mV; Iq/Amp: 5.5mA; Small Signal Bandwidth: 850MHz; V Span Max: 10.5V; V Span Min: 4.5V; DatasheetVersion: Rev. B; PackageVersion: 060506-A; PackageReference: R-8; PackageDescription: 8-Pin Standard Small Outline Package, Body 3.9 x 4.9 mm, Pitch 1.27 mm; Supplier 1: Digi-Key; Supplier Part Number 1: ADA4857-1YRZ-RL-ND; Slew Rate: 2.8KV/us; Mounting Technology: Surface Mount; Code_JEDEC: MS-012-AA; ComponentLink1Description: Manufacturer URL; ComponentLink1URL: http://www.analog.com/en/index.html; ComponentLink2Description: Datasheet; ComponentLink2URL: http://www.analog.com/static/imported-files/data_sheets/ADA4857-1_4857-2.pdf; ComponentLink3Description: Package Specification; ComponentLink3URL: http://www.analog.com/static/imported-files/packages/PKG_PDF/SOIC_Narrow%20(R)/R_8.pdf
footprint ADI-R-8_N (SOIC, 8-Leads, Body 4.9x3.9mm, Pitch 1.27mm, IPC Medium Density)
footprint ADI-R-8_L (SOIC, 8-Leads, Body 4.9x3.9mm, Pitch 1.27mm, IPC High Density)
footprint ADI-R-8_M (SOIC, 8-Leads, Body 4.9x3.9mm, Pitch 1.27mm, IPC Low Density)
pins: 1 FB (out), 2 -IN (in), 3 +IN (in), 4 -VS (power), 5 NC, 6 OUT (out), 7 +VS (power), 8 PD (in)

## ADA4857-2YCPZ-R2
designator U?
Double Channel Low Power Operational Amplifier, 750 MHz BW, 2.8 KV/us SR, Industrial, 16-pin QFN (CP-16-4), Reel; Generic Part Number: ADA4857-2; Manufacturer: Analog Devices; PartNumber: ADA4857-2YCPZ-R2; Amplifiers Per Package: 2; Input Bias Current: 2uA; Input Offset Voltage: 2mV; Iq/Amp: 5.5mA; Small Signal Bandwidth: 750MHz; V Span Max: 10.5V; V Span Min: 4.5V; DatasheetVersion: Rev. B; PackageVersion: 010606-0; PackageReference: CP-16-4; PackageDescription: 16-Pin Lead Frame Chip Scale Package, Body 4 x 4 mm, Pitch 0.65 mm; Supplier 1: Newark; Supplier Part Number 1: 11N8698; Packing: Reel; Slew Rate: 2.8KV/us; Mounting Technology: Surface Mount; Code_JEDEC: MO-220-VGGC; ComponentLink1Description: Manufacturer URL; ComponentLink1URL: http://www.analog.com/en/index.html; ComponentLink2Description: Datasheet; ComponentLink2URL: http://www.analog.com/static/imported-files/data_sheets/ADA4857-1_4857-2.pdf; ComponentLink3Description: Package Specification; ComponentLink3URL: http://www.analog.com/static/imported-files/packages/46009454504174339653421710019CP_16_4.pdf
footprint CP-16-4_N (QFN, 16-Leads, Body 4x4mm, Pitch 0.65mm, Thermal Pad 2.1x2.1mm, IPC Medium Density)
footprint CP-16-4_L (QFN, 16-Leads, Body 4x4mm, Pitch 0.65mm, Thermal Pad 2.1x2.1mm, IPC High Density)
footprint CP-16-4_M (QFN, 16-Leads, Body 4x4mm, Pitch 0.65mm, Thermal Pad 2.1x2.1mm, IPC Low Density)
part A pins: 1 -IN 1 (in), 2 +IN 1 (in), 12 -VS 1 (power), 13 OUT 1 (out), 14 +VS 1 (power), 15 PD 1 (in), 16 FB 1 (out)
part B pins: 4 -VS 2 (power), 5 OUT 2 (out), 6 +VS 2 (power), 7 PD 2 (in), 8 FB 2 (out), 9 -IN 2 (in), 10 +IN 2 (in)
part C pins: 3 NC, 11 NC, 17 EP (power)

## ADA4857-2YCPZ-R7
designator U?
Double Channel Low Power Operational Amplifier, 750 MHz BW, 2.8 KV/us SR, Industrial, 16-pin QFN (CP-16-4), Reel; Generic Part Number: ADA4857-2; Manufacturer: Analog Devices; PartNumber: ADA4857-2YCPZ-R7; Amplifiers Per Package: 2; Input Bias Current: 2uA; Input Offset Voltage: 2mV; Iq/Amp: 5.5mA; Small Signal Bandwidth: 750MHz; V Span Max: 10.5V; V Span Min: 4.5V; DatasheetVersion: Rev. B; PackageVersion: 010606-0; PackageReference: CP-16-4; PackageDescription: 16-Pin Lead Frame Chip Scale Package, Body 4 x 4 mm, Pitch 0.65 mm; Supplier 1: Digi-Key; Supplier Part Number 1: ADA4857-2YCPZ-R7TR-ND; Supplier 2: Digi-Key; Supplier Part Number 2: ADA4857-2YCPZ-R7CT-ND; Supplier 3: Digi-Key; Supplier Part Number 3: ADA4857-2YCPZ-R7DKR-ND; Supplier 4: Farnell; Supplier Part Number 4: 2291568; Supplier 5: Newark; Supplier Part Number 5: 63W5358; Supplier 6: Newark; Supplier Part Number 6: 11N8699; Supplier 7: Newark; Supplier Part Number 7: 66W5879; Packing: Reel; Slew Rate: 2.8KV/us; Mounting Technology: Surface Mount; Code_JEDEC: MO-220-VGGC; ComponentLink1Description: Manufacturer URL; ComponentLink1URL: http://www.analog.com/en/index.html; ComponentLink2Description: Datasheet; ComponentLink2URL: http://www.analog.com/static/imported-files/data_sheets/ADA4857-1_4857-2.pdf; ComponentLink3Description: Package Specification; ComponentLink3URL: http://www.analog.com/static/imported-files/packages/46009454504174339653421710019CP_16_4.pdf
footprint CP-16-4_N (QFN, 16-Leads, Body 4x4mm, Pitch 0.65mm, Thermal Pad 2.1x2.1mm, IPC Medium Density)
footprint CP-16-4_L (QFN, 16-Leads, Body 4x4mm, Pitch 0.65mm, Thermal Pad 2.1x2.1mm, IPC High Density)
footprint CP-16-4_M (QFN, 16-Leads, Body 4x4mm, Pitch 0.65mm, Thermal Pad 2.1x2.1mm, IPC Low Density)
part A pins: 1 -IN 1 (in), 2 +IN 1 (in), 12 -VS 1 (power), 13 OUT 1 (out), 14 +VS 1 (power), 15 PD 1 (in), 16 FB 1 (out)
part B pins: 4 -VS 2 (power), 5 OUT 2 (out), 6 +VS 2 (power), 7 PD 2 (in), 8 FB 2 (out), 9 -IN 2 (in), 10 +IN 2 (in)
part C pins: 3 NC, 11 NC, 17 EP (power)

## ADA4857-2YCPZ-RL
designator U?
Double Channel Low Power Operational Amplifier, 750 MHz BW, 2.8 KV/us SR, Industrial, 16-pin QFN (CP-16-4), Reel; Generic Part Number: ADA4857-2; Manufacturer: Analog Devices; PartNumber: ADA4857-2YCPZ-RL; Amplifiers Per Package: 2; Input Bias Current: 2uA; Input Offset Voltage: 2mV; Iq/Amp: 5.5mA; Small Signal Bandwidth: 750MHz; V Span Max: 10.5V; V Span Min: 4.5V; DatasheetVersion: Rev. B; PackageVersion: 010606-0; PackageReference: CP-16-4; PackageDescription: 16-Pin Lead Frame Chip Scale Package, Body 4 x 4 mm, Pitch 0.65 mm; Supplier 1: Digi-Key; Supplier Part Number 1: ADA4857-2YCPZ-RL-ND; Supplier 2: Newark; Supplier Part Number 2: 11N8697; Slew Rate: 2.8KV/us; Mounting Technology: Surface Mount; Code_JEDEC: MO-220-VGGC; ComponentLink1Description: Manufacturer URL; ComponentLink1URL: http://www.analog.com/en/index.html; ComponentLink2Description: Datasheet; ComponentLink2URL: http://www.analog.com/static/imported-files/data_sheets/ADA4857-1_4857-2.pdf; ComponentLink3Description: Package Specification; ComponentLink3URL: http://www.analog.com/static/imported-files/packages/46009454504174339653421710019CP_16_4.pdf
footprint CP-16-4_N (QFN, 16-Leads, Body 4x4mm, Pitch 0.65mm, Thermal Pad 2.1x2.1mm, IPC Medium Density)
footprint CP-16-4_L (QFN, 16-Leads, Body 4x4mm, Pitch 0.65mm, Thermal Pad 2.1x2.1mm, IPC High Density)
footprint CP-16-4_M (QFN, 16-Leads, Body 4x4mm, Pitch 0.65mm, Thermal Pad 2.1x2.1mm, IPC Low Density)
part A pins: 1 -IN 1 (in), 2 +IN 1 (in), 12 -VS 1 (power), 13 OUT 1 (out), 14 +VS 1 (power), 15 PD 1 (in), 16 FB 1 (out)
part B pins: 4 -VS 2 (power), 5 OUT 2 (out), 6 +VS 2 (power), 7 PD 2 (in), 8 FB 2 (out), 9 -IN 2 (in), 10 +IN 2 (in)
part C pins: 3 NC, 11 NC, 17 EP (power)

## ADA4860-1YRJZ-R2
designator U?
Single Channel Low Power Operational Amplifier, 520 MHz BW, 790V/us SR, Industrial, 6-pin SOT23 (RJ-6), Reel; Generic Part Number: ADA4860-1; Manufacturer: Analog Devices; PartNumber: ADA4860-1YRJZ-R2; Amplifiers Per Package: 1; Input Bias Current: 1.5uA; Input Offset Voltage: 3.5mV; Iq/Amp: 8mA; Small Signal Bandwidth: 520MHz; V Span Max: 12V; V Span Min: 5V; DatasheetVersion: Rev. 0; PackageVersion: 121608-A; PackageReference: RJ-6; PackageDescription: 6-Pin Small Outline Transistor Package, Body 2.9 x 1.6 mm, Pitch 0.95 mm; Supplier 1: Newark; Supplier Part Number 1: 12M7615; Slew Rate: 790V/us; Mounting Technology: Surface Mount; Code_JEDEC: MO-178-AB; ComponentLink1Description: Manufacturer URL; ComponentLink1URL: http://www.analog.com/en/index.html; ComponentLink2Description: Datasheet; ComponentLink2URL: http://www.analog.com/static/imported-files/data_sheets/ADA4860-1.pdf; ComponentLink3Description: Package Specification; ComponentLink3URL: http://www.analog.com/static/imported-files/packages/PKG_PDF/SOT-23(RJ)/RJ_6.pdf
footprint ADI-RJ-6_N (SOT23, 6-Leads, Body 2.9x1.6mm, Pitch 0.95mm, IPC Medium Density)
footprint ADI-RJ-6_L (SOT23, 6-Leads, Body 2.9x1.6mm, Pitch 0.95mm, IPC High Density)
footprint ADI-RJ-6_M (SOT23, 6-Leads, Body 2.9x1.6mm, Pitch 0.95mm, IPC Low Density)
pins: 1 VOUT (out), 2 -VS (power), 3 +IN (in), 4 -IN (in), 5 POWER DOWN (in), 6 +VS (power)

## ADA4860-1YRJZ-RL
designator U?
Single Channel Low Power Operational Amplifier, 520 MHz BW, 790V/us SR, Industrial, 6-pin SOT23 (RJ-6), Reel; Generic Part Number: ADA4860-1; Manufacturer: Analog Devices; PartNumber: ADA4860-1YRJZ-RL; Amplifiers Per Package: 1; Input Bias Current: 1.5uA; Input Offset Voltage: 3.5mV; Iq/Amp: 8mA; Small Signal Bandwidth: 520MHz; V Span Max: 12V; V Span Min: 5V; DatasheetVersion: Rev. 0; PackageVersion: 121608-A; PackageReference: RJ-6; PackageDescription: 6-Pin Small Outline Transistor Package, Body 2.9 x 1.6 mm, Pitch 0.95 mm; Supplier 1: Digi-Key; Supplier Part Number 1: ADA4860-1YRJZ-RL-ND; Supplier 2: Newark; Supplier Part Number 2: 12M7613; Slew Rate: 790V/us; Mounting Technology: Surface Mount; Code_JEDEC: MO-178-AB; ComponentLink1Description: Manufacturer URL; ComponentLink1URL: http://www.analog.com/en/index.html; ComponentLink2Description: Datasheet; ComponentLink2URL: http://www.analog.com/static/imported-files/data_sheets/ADA4860-1.pdf; ComponentLink3Description: Package Specification; ComponentLink3URL: http://www.analog.com/static/imported-files/packages/PKG_PDF/SOT-23(RJ)/RJ_6.pdf
footprint ADI-RJ-6_N (SOT23, 6-Leads, Body 2.9x1.6mm, Pitch 0.95mm, IPC Medium Density)
footprint ADI-RJ-6_L (SOT23, 6-Leads, Body 2.9x1.6mm, Pitch 0.95mm, IPC High Density)
footprint ADI-RJ-6_M (SOT23, 6-Leads, Body 2.9x1.6mm, Pitch 0.95mm, IPC Low Density)
pins: 1 VOUT (out), 2 -VS (power), 3 +IN (in), 4 -IN (in), 5 POWER DOWN (in), 6 +VS (power)

## ADA4860-1YRJZ-RL7
designator U?
Single Channel Low Power Operational Amplifier, 520 MHz BW, 790V/us SR, Industrial, 6-pin SOT23 (RJ-6), Reel; Generic Part Number: ADA4860-1; Manufacturer: Analog Devices; PartNumber: ADA4860-1YRJZ-RL7; Amplifiers Per Package: 1; Input Bias Current: 1.5uA; Input Offset Voltage: 3.5mV; Iq/Amp: 8mA; Small Signal Bandwidth: 520MHz; V Span Max: 12V; V Span Min: 5V; DatasheetVersion: Rev. 0; PackageVersion: 121608-A; PackageReference: RJ-6; PackageDescription: 6-Pin Small Outline Transistor Package, Body 2.9 x 1.6 mm, Pitch 0.95 mm; Supplier 1: Digi-Key; Supplier Part Number 1: ADA4860-1YRJZ-RL7TR-ND; Supplier 2: Digi-Key; Supplier Part Number 2: ADA4860-1YRJZ-RL7CT-ND; Supplier 3: Digi-Key; Supplier Part Number 3: ADA4860-1YRJZ-RL7DKR-ND; Supplier 4: Newark; Supplier Part Number 4: 12M7614; Slew Rate: 790V/us; Mounting Technology: Surface Mount; Code_JEDEC: MO-178-AB; ComponentLink1Description: Manufacturer URL; ComponentLink1URL: http://www.analog.com/en/index.html; ComponentLink2Description: Datasheet; ComponentLink2URL: http://www.analog.com/static/imported-files/data_sheets/ADA4860-1.pdf; ComponentLink3Description: Package Specification; ComponentLink3URL: http://www.analog.com/static/imported-files/packages/PKG_PDF/SOT-23(RJ)/RJ_6.pdf
footprint ADI-RJ-6_N (SOT23, 6-Leads, Body 2.9x1.6mm, Pitch 0.95mm, IPC Medium Density)
footprint ADI-RJ-6_L (SOT23, 6-Leads, Body 2.9x1.6mm, Pitch 0.95mm, IPC High Density)
footprint ADI-RJ-6_M (SOT23, 6-Leads, Body 2.9x1.6mm, Pitch 0.95mm, IPC Low Density)
pins: 1 VOUT (out), 2 -VS (power), 3 +IN (in), 4 -IN (in), 5 POWER DOWN (in), 6 +VS (power)

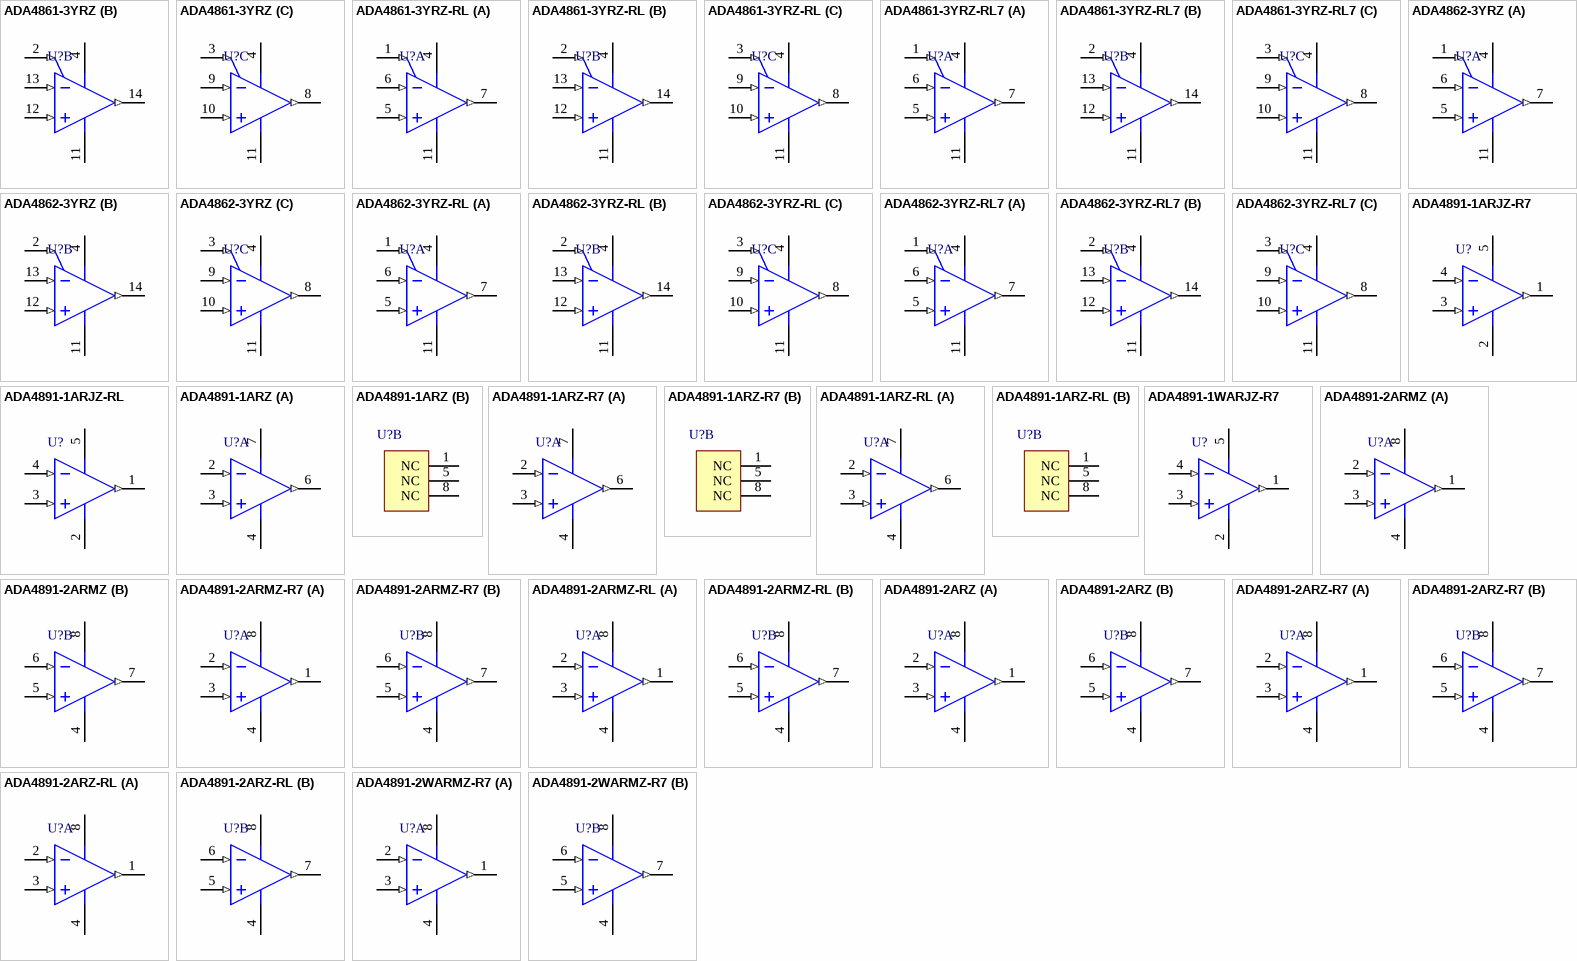
[diagram p86: symbols ADA4861-3YRZ to ADA4891-2WARMZ-R7]

## ADA4861-3YRZ
designator U?
3 Channel Low Power Operational Amplifier, 730 MHz BW, 625 V/us SR, Industrial, 14-pin SOIC (R-14), Tube; Generic Part Number: ADA4861-3; Manufacturer: Analog Devices; PartNumber: ADA4861-3YRZ; Amplifiers Per Package: 3; Input Bias Current: 700pA; Input Offset Voltage: 100uV; Iq/Amp: 6.83mA; Small Signal Bandwidth: 730MHz; V Span Max: 12V; V Span Min: 5V; DatasheetVersion: Rev. A; PackageVersion: 060606-A; PackageReference: R-14; PackageDescription: 14-Pin Standard Small Outline Package, Body 8.65 x 3.9 mm, Pitch 1.27 mm; Supplier 1: Digi-Key; Supplier Part Number 1: ADA4861-3YRZ-ND; Supplier 2: Farnell; Supplier Part Number 2: 1117874; Supplier 3: Newark; Supplier Part Number 3: 19M0650; Slew Rate: 625V/us; Mounting Technology: Surface Mount; Code_JEDEC: MS-012-AB; ComponentLink1Description: Manufacturer URL; ComponentLink1URL: http://www.analog.com/en/index.html; ComponentLink2Description: Datasheet; ComponentLink2URL: http://www.analog.com/static/imported-files/data_sheets/ADA4861-3.pdf; ComponentLink3Description: Package Specification; ComponentLink3URL: http://www.analog.com/static/imported-files/packages/PKG_PDF/SOIC_Narrow%20(R)/R_14.pdf
footprint ADI-R-14_N (SOIC, 14-Leads, Body 8.65x3.9mm, Pitch 1.27mm, IPC Medium Density)
footprint ADI-R-14_L (SOIC, 14-Leads, Body 8.65x3.9mm, Pitch 1.27mm, IPC High Density)
footprint ADI-R-14_M (SOIC, 14-Leads, Body 8.65x3.9mm, Pitch 1.27mm, IPC Low Density)
pins on every part: 4 +VS (power), 11 -VS (power)
part A pins: 1 POWER DOWN 1 (in), 5 +IN 1 (in), 6 -IN 1 (in), 7 OUT 1 (out)
part B pins: 2 POWER DOWN 2 (in), 12 +IN 2 (in), 13 -IN 2 (in), 14 OUT 2 (out)
part C pins: 3 POWER DOWN 3 (in), 8 OUT 3 (out), 9 -IN 3 (in), 10 +IN 3 (in)

## ADA4861-3YRZ-RL
designator U?
3 Channel Low Power Operational Amplifier, 730 MHz BW, 625 V/us SR, Industrial, 14-pin SOIC (R-14), Reel; Generic Part Number: ADA4861-3; Manufacturer: Analog Devices; PartNumber: ADA4861-3YRZ-RL; Amplifiers Per Package: 3; Input Bias Current: 700pA; Input Offset Voltage: 100uV; Iq/Amp: 6.83mA; Small Signal Bandwidth: 730MHz; V Span Max: 12V; V Span Min: 5V; DatasheetVersion: Rev. A; PackageVersion: 060606-A; PackageReference: R-14; PackageDescription: 14-Pin Standard Small Outline Package, Body 8.65 x 3.9 mm, Pitch 1.27 mm; Supplier 1: Digi-Key; Supplier Part Number 1: ADA4861-3YRZ-RL-ND; Supplier 2: Newark; Supplier Part Number 2: 12M7617; Slew Rate: 625V/us; Mounting Technology: Surface Mount; Code_JEDEC: MS-012-AB; ComponentLink1Description: Manufacturer URL; ComponentLink1URL: http://www.analog.com/en/index.html; ComponentLink2Description: Datasheet; ComponentLink2URL: http://www.analog.com/static/imported-files/data_sheets/ADA4861-3.pdf; ComponentLink3Description: Package Specification; ComponentLink3URL: http://www.analog.com/static/imported-files/packages/PKG_PDF/SOIC_Narrow%20(R)/R_14.pdf
footprint ADI-R-14_N (SOIC, 14-Leads, Body 8.65x3.9mm, Pitch 1.27mm, IPC Medium Density)
footprint ADI-R-14_L (SOIC, 14-Leads, Body 8.65x3.9mm, Pitch 1.27mm, IPC High Density)
footprint ADI-R-14_M (SOIC, 14-Leads, Body 8.65x3.9mm, Pitch 1.27mm, IPC Low Density)
pins on every part: 4 +VS (power), 11 -VS (power)
part A pins: 1 POWER DOWN 1 (in), 5 +IN 1 (in), 6 -IN 1 (in), 7 OUT 1 (out)
part B pins: 2 POWER DOWN 2 (in), 12 +IN 2 (in), 13 -IN 2 (in), 14 OUT 2 (out)
part C pins: 3 POWER DOWN 3 (in), 8 OUT 3 (out), 9 -IN 3 (in), 10 +IN 3 (in)

## ADA4861-3YRZ-RL7
designator U?
3 Channel Low Power Operational Amplifier, 730 MHz BW, 625 V/us SR, Industrial, 14-pin SOIC (R-14), Reel; Generic Part Number: ADA4861-3; Manufacturer: Analog Devices; PartNumber: ADA4861-3YRZ-RL7; Amplifiers Per Package: 3; Input Bias Current: 700pA; Input Offset Voltage: 100uV; Iq/Amp: 6.83mA; Small Signal Bandwidth: 730MHz; V Span Max: 12V; V Span Min: 5V; DatasheetVersion: Rev. A; PackageVersion: 060606-A; PackageReference: R-14; PackageDescription: 14-Pin Standard Small Outline Package, Body 8.65 x 3.9 mm, Pitch 1.27 mm; Supplier 1: Digi-Key; Supplier Part Number 1: ADA4861-3YRZ-RL7-ND; Supplier 2: Newark; Supplier Part Number 2: 12M7618; Slew Rate: 625V/us; Mounting Technology: Surface Mount; Code_JEDEC: MS-012-AB; ComponentLink1Description: Manufacturer URL; ComponentLink1URL: http://www.analog.com/en/index.html; ComponentLink2Description: Datasheet; ComponentLink2URL: http://www.analog.com/static/imported-files/data_sheets/ADA4861-3.pdf; ComponentLink3Description: Package Specification; ComponentLink3URL: http://www.analog.com/static/imported-files/packages/PKG_PDF/SOIC_Narrow%20(R)/R_14.pdf
footprint ADI-R-14_N (SOIC, 14-Leads, Body 8.65x3.9mm, Pitch 1.27mm, IPC Medium Density)
footprint ADI-R-14_L (SOIC, 14-Leads, Body 8.65x3.9mm, Pitch 1.27mm, IPC High Density)
footprint ADI-R-14_M (SOIC, 14-Leads, Body 8.65x3.9mm, Pitch 1.27mm, IPC Low Density)
pins on every part: 4 +VS (power), 11 -VS (power)
part A pins: 1 POWER DOWN 1 (in), 5 +IN 1 (in), 6 -IN 1 (in), 7 OUT 1 (out)
part B pins: 2 POWER DOWN 2 (in), 12 +IN 2 (in), 13 -IN 2 (in), 14 OUT 2 (out)
part C pins: 3 POWER DOWN 3 (in), 8 OUT 3 (out), 9 -IN 3 (in), 10 +IN 3 (in)